# Altium schematic symbol library Conn_Sullins_GRPB071VWVN-RC_eec.SchLib: 1 symbol
Pins are listed as number, name and electrical type; pins without a type are passive.

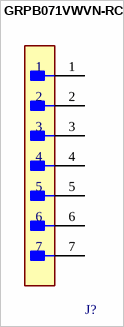
[diagram p0: symbol GRPB071VWVN-RC]

## GRPB071VWVN-RC
designator J?  (value not drawn)
footprint Sullins_0_MFG
pins: 1, 2, 3, 4, 5, 6, 7